# Altium schematic symbol library Capacitor.SchLib: 15 symbols
Pins are listed as number, name and electrical type; pins without a type are passive.

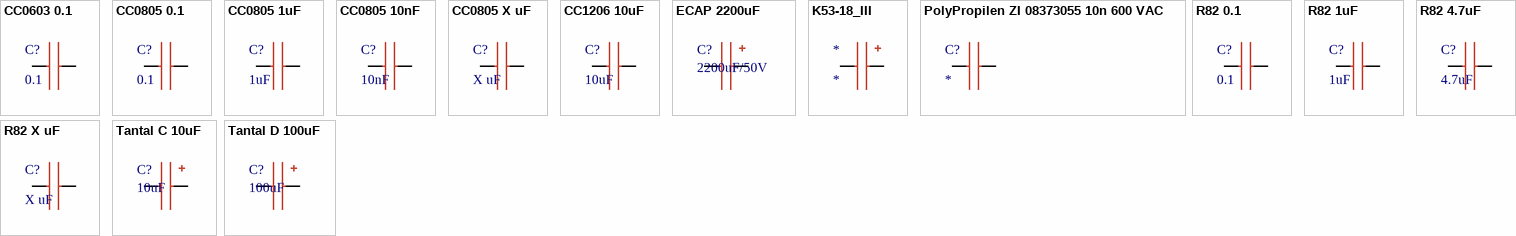
[diagram p0: symbols CC0603 0.1 to Tantal D 100uF]

## CC0603 0.1
designator C?, comment 0.1
Value: 0.1
footprint СС0603
pins: 1, 2

## CC0805 0.1
designator C?, comment 0.1
Value: 0.1
footprint CC0805_3D (Chip Capacitor, 2-Leads, Body 2,80x1,40mm, IPC Medium Density)
pins: 1, 2

## CC0805 1uF
designator C?, comment 1uF
Value: 1uF
footprint CC0805_3D (Chip Capacitor, 2-Leads, Body 2,80x1,40mm, IPC Medium Density)
pins: 1, 2

## CC0805 10nF
designator C?, comment 10nF
Value: 10nF
footprint CC0805_3D (Chip Capacitor, 2-Leads, Body 2,80x1,40mm, IPC Medium Density)
pins: 1, 2

## CC0805 X uF
designator C?, comment X uF
Value: X uF
footprint CC0805_3D (Chip Capacitor, 2-Leads, Body 2,80x1,40mm, IPC Medium Density)
pins: 1, 2

## CC1206 10uF
designator C?, comment 10uF
Value: 10uF
footprint CC1206
pins: 1, 2

## ECAP 2200uF
designator C?, comment 2200uF/50V
Value: 2200uF/50V
footprint ECAP-18mm (Aluminum Electrolytic Capacitor, d=18mm, lead = 7.5mm)
pins: A, K

## K53-18_III
designator *
footprint K53-18_III
3D model User_Library-K53-4A-10mkF (PCB3D Model)
pins: 1, 2

## PolyPropilen ZI 08373055 10n 600 VAC
designator C?
footprint PP 15x6x11
pins: 1, 2

## R82 0.1
designator C?, comment 0.1
KEMET; Value: 0.1
footprint Kemet R82 2.5x6.5x7.2
pins: 1, 2

## R82 1uF
designator C?, comment 1uF
KEMET; Value: 1uF
footprint Kemet R82 5.0x10.0x7.2
pins: 1, 2

## R82 4.7uF
designator C?, comment 4.7uF
KEMET; Value: 4.7uF
footprint Kemet R82 7.2x13.0x7.2
pins: 1, 2

## R82 X uF
designator C?, comment X uF
KEMET; Value: X uF
footprint Kemet R82 7.2x13.0x7.2
pins: 1, 2

## Tantal C 10uF
designator C?, comment 10uF
16 V; Value: 10uF; Voltage: 16 V
footprint Tantal Type C (Molded Capacitor, 2-Leads, Body 6,00x3,20mm, IPC Medium Density)
pins: 1, 2

## Tantal D 100uF
designator C?, comment 100uF
Value: 100uF
footprint TANTAL TYPE D
pins: 1, 2